# EAGLE library part OSCILLATOR,SINEWAVE (library QuantumOptics)
Oscillator, sinewave or square, programmable, serial, Analog Devices AD9833
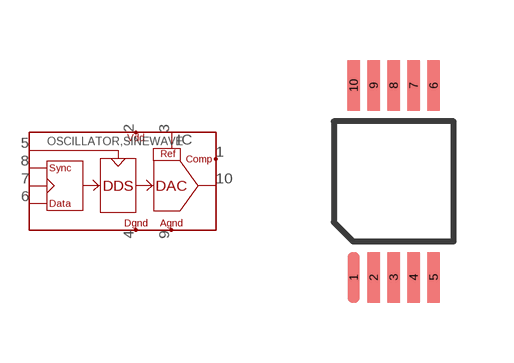
[diagram p166: symbol with the pads of MSOP10; footprint MSOP10]

Designator prefix IC

## OSCILLATOR,SINEWAVE-MSOP10  [MSOP10]
1  COMP
2  VDD
3  REF
4  DGND
5  MCLK  in
6  SDATA  in
7  SCLK  in
8  SYNC  in
9  AGND
10  OUT  out

## Footprint MSOP10 (pad centres in mm)
MSOP-10 with 4.8mm row spacing. Sameas Maxim's µsop-10.
smd 0.305 x 1.27: 1 -1,-2.4; 2 -0.5,-2.4; 3 0,-2.4; 4 0.5,-2.4; 5 1,-2.4; 6 1,2.4; 7 0.5,2.4; 8 0,2.4; 9 -0.5,2.4; 10 -1,2.4